# Altium schematic symbol library POWER IC - TRANSISTOR ARRAY.SchLib: 1 symbol
Pins are listed as number, name and electrical type; pins without a type are passive.

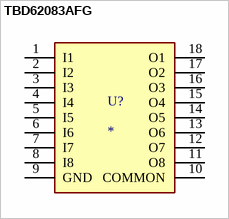
[diagram p0: symbol TBD62083AFG]

## TBD62083AFG
designator U?
8 ch sink type DMOS transistor array; LCSC: C163228
footprint SOIC127P1030X245-18N
pins: 1 I1, 2 I2, 3 I3, 4 I4, 5 I5, 6 I6, 7 I7, 8 I8, 9 GND, 10 COMMON, 11 O8, 12 O7, 13 O6, 14 O5, 15 O4, 16 O3, 17 O2, 18 O1